# Altium footprint library JRC4558.PcbLib: 1 footprints
Each footprint in its own frame and in the unit in brackets; x right, y up, seen from the top. Pads: shape width x height; smd on the part's side, far side on the other; paste and mask are expansions set on the pad; w line width, h text height; cw(c..) or ccw(c..) is an arc to the next point about the centre after c.
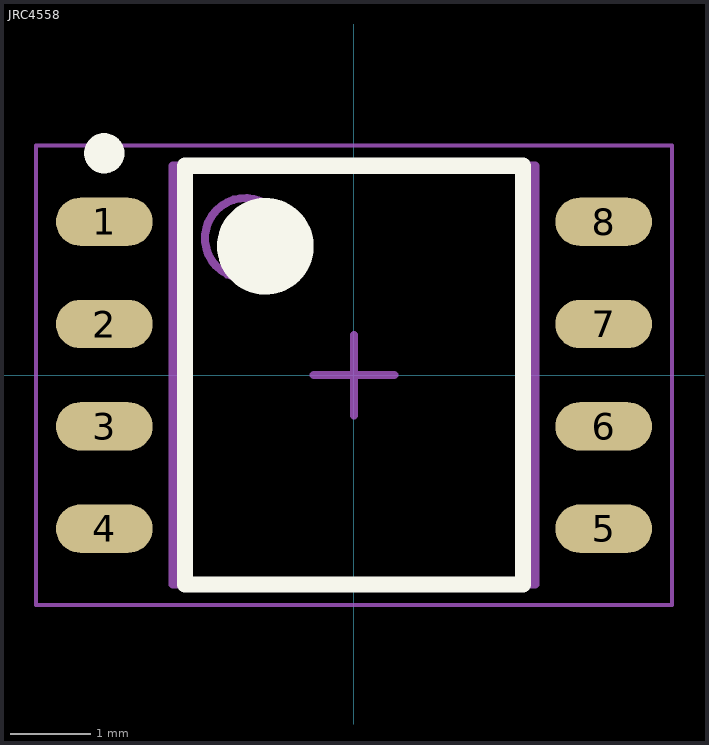
[diagram p0: the footprint, top view; thin cyan lines are the x and y axes]

## JRC4558 [mm] "SOIC, 8-Leads, Body 5,20x4,50mm, Pitch 1,27mm, IPC Medium Density"
height 1.9
pads (8):
  oval 1.2x0.6 smd: 1(-3.1,1.905) 2(-3.1,0.635) 3(-3.1,-0.635) 4(-3.1,-1.905) 5(3.1,-1.905) 6(3.1,-0.635) 7(3.1,0.635) 8(3.1,1.905)
Top Overlay:
  circle w0.6: c-1.1,1.6 r0.3
  circle w0.25: c-3.1,2.755 r0.125
  lines w0.2: -2.1,-2.6 2.1,-2.6 2.1,2.6 -2.1,2.6 -2.1,-2.6
Mechanical 13:
  circle w0.1: c-1.35,1.7 r0.5
  lines w0.1: -2.25,-2.6 2.25,-2.6 2.25,2.6 -2.25,2.6 -2.25,-2.6
Mechanical 15:
  lines w0.05: -3.95,-2.85 3.95,-2.85 3.95,2.85 -3.95,2.85 -3.95,-2.85
  lines w0.1: -0.5,0 0.5,0 ; 0,-0.5 0,0.5
3D body "SOIC127P650X190-8N.step": height 1.9, standoff 0, extent -3.25,-2.6 3.25,2.6